# Altium footprint library components.PcbLib: 16 footprints
Each footprint in its own frame and in the unit in brackets; x right, y up, seen from the top. Pads: shape width x height; smd on the part's side, far side on the other; paste and mask are expansions set on the pad; w line width, h text height; cw(c..) or ccw(c..) is an arc to the next point about the centre after c.
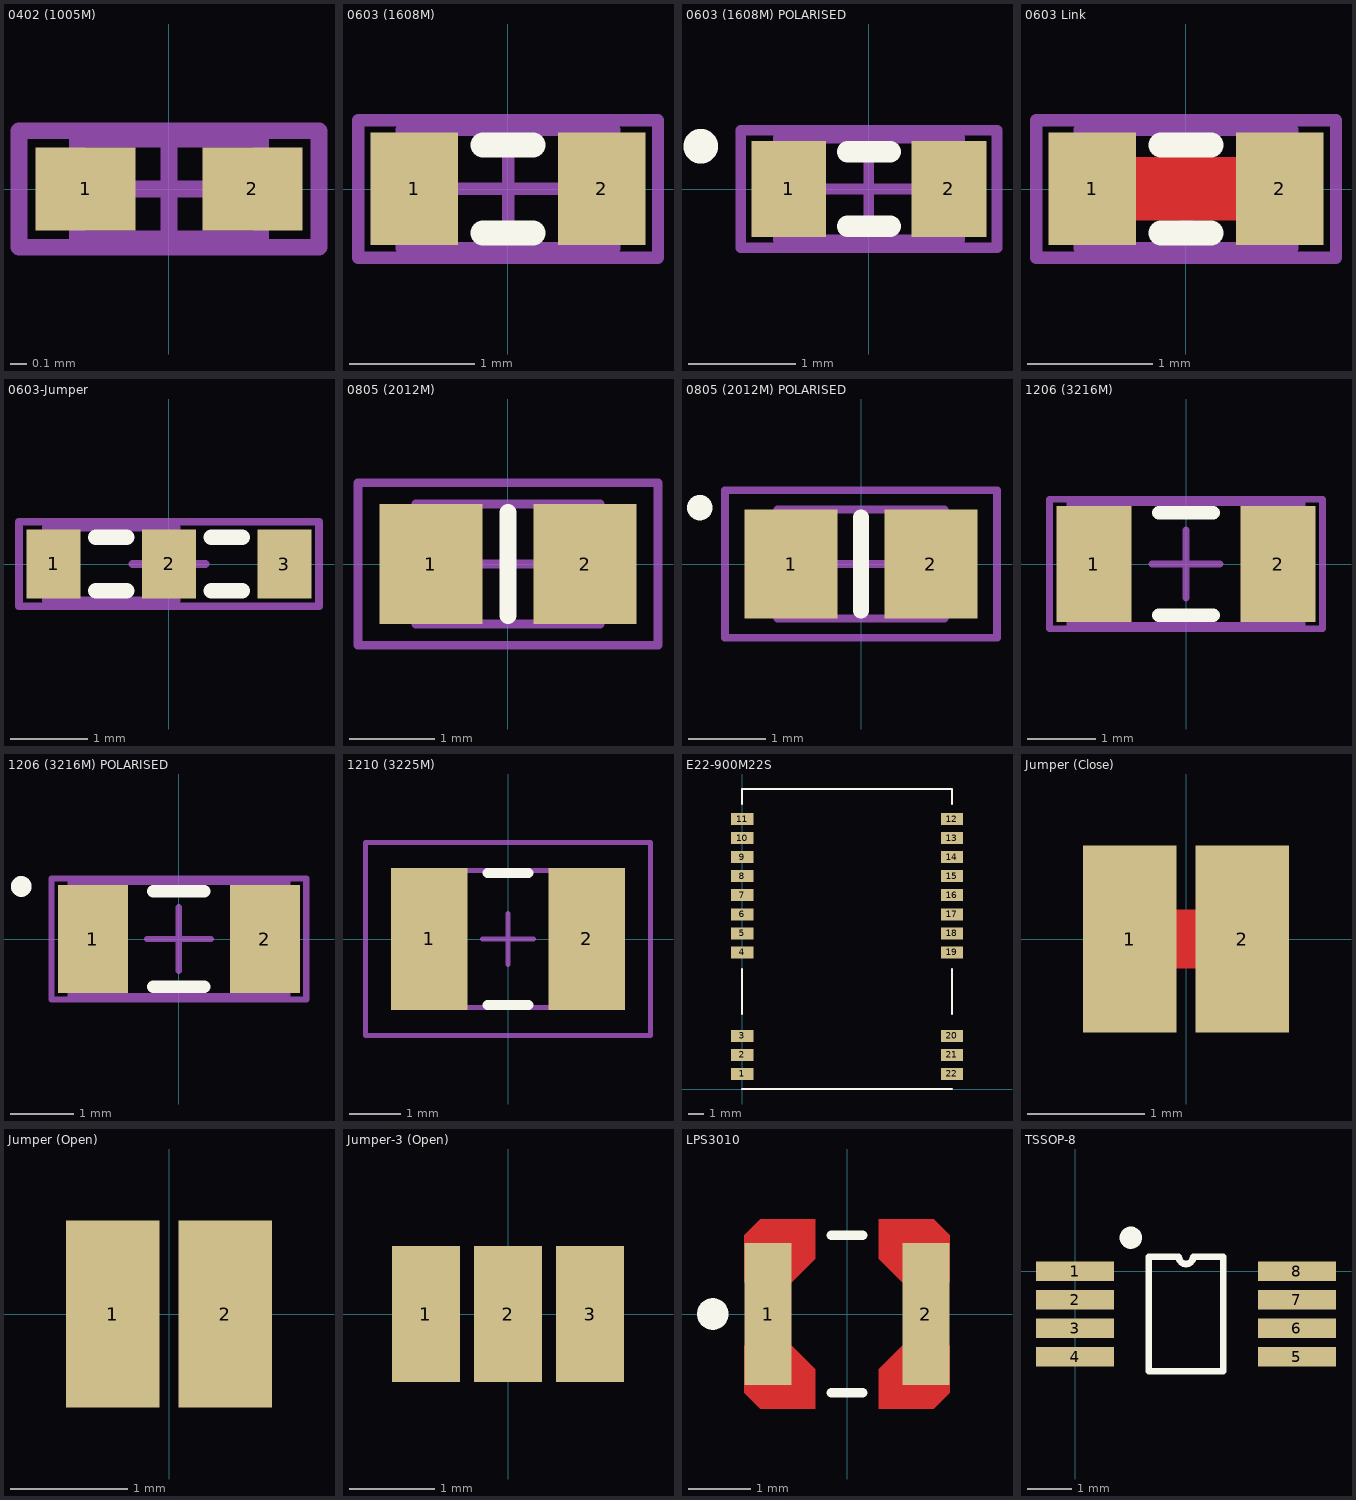
[diagram p0: the footprints below, top view; thin cyan lines are the x and y axes]

## 0402 (1005M) [mm] "Chip Capacitor, Body 1.0x0.5mm, IPC High Density"
height 1.3
pads (2):
  rect 0.6x0.5 smd: 1(-0.5,0) 2(0.5,0)
Mechanical 13:
  lines w0.1: -0.55,-0.3 -0.55,0.3 0.55,0.3 0.55,-0.3 -0.55,-0.3
Mechanical 15:
  lines w0.1: -0.3,0 0.3,0 ; 0,-0.3 0,0.3 ; -0.9,-0.35 -0.9,0.35 0.9,0.35 0.9,-0.35 -0.9,-0.35
3D body: height 1.3, standoff 0, extent -0.55,-0.3 0.55,0.3

## 0603 (1608M) [mm] "Chip Resistor, Body 1.6x0.8mm, IPC High Density"
height 0.9
pads (2):
  rect 0.7x0.9 smd: 1(-0.75,0) 2(0.75,0)
Top Overlay:
  lines w0.2: -0.2,-0.35 0.2,-0.35 ; -0.2,0.35 0.2,0.35
Mechanical 13:
  lines w0.1: -0.85,-0.475 -0.85,0.475 0.85,0.475 0.85,-0.475 -0.85,-0.475
Mechanical 15:
  lines w0.1: -0.475,0 0.475,0 ; 0,-0.475 0,0.475 ; -1.2,-0.55 -1.2,0.55 1.2,0.55 1.2,-0.55 -1.2,-0.55
3D body: height 0.9, standoff 0, extent -0.85,-0.475 0.85,0.475

## 0603 (1608M) POLARISED [mm] "0603 Footprint for Polarised Components"
height 0.9
pads (2):
  rect 0.7x0.9 smd: 1(-0.75,0) 2(0.75,0)
Top Overlay:
  circle w0.254: c-1.575,0.4 r0.035
  lines w0.2: -0.2,-0.35 0.2,-0.35 ; -0.2,0.35 0.2,0.35
Mechanical 13:
  lines w0.1: -0.85,-0.475 -0.85,0.475 0.85,0.475 0.85,-0.475 -0.85,-0.475
Mechanical 15:
  lines w0.1: -0.475,0 0.475,0 ; 0,-0.475 0,0.475 ; -1.2,-0.55 -1.2,0.55 1.2,0.55 1.2,-0.55 -1.2,-0.55
3D body: height 0.9, standoff 0, extent -0.85,-0.475 0.85,0.475

## 0603 Link [mm]
height 0.9
pads (2):
  rect 0.7x0.9 smd: 1(-0.75,0) 2(0.75,0)
Top Layer:
  lines w0.508: -0.75,0 0.75,0
Top Overlay:
  lines w0.2: -0.2,-0.35 0.2,-0.35 ; -0.2,0.35 0.2,0.35
Mechanical 13:
  lines w0.1: -0.85,-0.475 0.85,-0.475 0.85,0.475 -0.85,0.475 -0.85,-0.475
Mechanical 15:
  lines w0.1: -0.475,0 0.475,0 ; 0,-0.475 0,0.475 ; -1.2,-0.55 1.2,-0.55 1.2,0.55 -1.2,0.55 -1.2,-0.55
3D body: height 0.9, standoff 0, extent -0.85,-0.475 0.85,0.475

## 0603-Jumper [mm] "Selectable Jumper 0603"
height 0.9
pads (3):
  rect 0.7x0.9 smd: 1(-1.5,0) 2(0,0) 3(1.5,0)
Top Overlay:
  lines w0.2: -0.95,-0.35 -0.55,-0.35 ; -0.95,0.35 -0.55,0.35 ; 0.55,-0.35 0.95,-0.35 ; 0.55,0.35 0.95,0.35
Mechanical 13:
  lines w0.1: -1.6,-0.475 0.1,-0.475 0.1,0.475 -1.6,0.475 -1.6,-0.475
Mechanical 15:
  lines w0.1: -0.475,0 0.475,0 ; 0,-0.525 0,0.525 ; -1.95,-0.55 1.95,-0.55 1.95,0.55 -1.95,0.55 -1.95,-0.55
3D body: height 0.9, standoff 0, extent -1.6,-0.475 1.625,0.475

## 0805 (2012M) [mm] "0805 Footprint"
height 0.7
pads (2):
  rect 1.2x1.4 smd: 1(-0.9,0) 2(0.9,0)
Top Overlay:
  lines w0.2: 0,-0.6 0,0.6
Mechanical 13:
  lines w0.1: -1.075,-0.7 -1.075,0.7 1.075,0.7 1.075,-0.7 -1.075,-0.7
Mechanical 15:
  lines w0.1: -0.5,0 0.5,0 ; 0,-0.5 0,0.5 ; -1.75,-0.95 -1.75,0.95 1.75,0.95 1.75,-0.95 -1.75,-0.95
3D body: height 0.7, standoff 0, extent -1.075,-0.7 1.075,0.7

## 0805 (2012M) POLARISED [mm] "0805 Footprint for Polarised Components"
height 0.7
pads (2):
  rect 1.2x1.4 smd: 1(-0.9,0) 2(0.9,0)
Top Overlay:
  circle w0.254: c-2.075,0.725 r0.035
  lines w0.2: 0,-0.6 0,0.6
Mechanical 13:
  lines w0.1: -1.075,-0.7 -1.075,0.7 1.075,0.7 1.075,-0.7 -1.075,-0.7
Mechanical 15:
  lines w0.1: -0.5,0 0.5,0 ; 0,-0.5 0,0.5 ; -1.75,-0.95 -1.75,0.95 1.75,0.95 1.75,-0.95 -1.75,-0.95
3D body: height 0.7, standoff 0, extent -1.075,-0.7 1.075,0.7

## 1206 (3216M) [mm] "1206 Footprint"
height 1.3
pads (2):
  rect 1.1x1.7 smd: 1(-1.35,0) 2(1.35,0)
Top Overlay:
  lines w0.2: -0.4,-0.75 0.4,-0.75 ; -0.4,0.75 0.4,0.75
Mechanical 13:
  lines w0.1: -1.7,-0.9 1.7,-0.9 1.7,0.9 -1.7,0.9 -1.7,-0.9
Mechanical 15:
  lines w0.1: -0.5,0 0.5,0 ; 0,-0.5 0,0.5 ; -2,-0.95 2,-0.95 2,0.95 -2,0.95 -2,-0.95
3D body: height 1.3, standoff 0, extent -1.7,-0.9 1.7,0.9

## 1206 (3216M) POLARISED [mm] "1206 Footprint for Polarised Components"
height 1.3
pads (2):
  rect 1.1x1.7 smd: 1(-1.35,0) 2(1.35,0)
Top Overlay:
  circle w0.254: c-2.475,0.825 r0.035
  lines w0.2: -0.4,-0.75 0.4,-0.75 ; -0.4,0.75 0.4,0.75
Mechanical 13:
  lines w0.1: -1.7,-0.9 1.7,-0.9 1.7,0.9 -1.7,0.9 -1.7,-0.9
Mechanical 15:
  lines w0.1: -0.5,0 0.5,0 ; 0,-0.5 0,0.5 ; -2,-0.95 2,-0.95 2,0.95 -2,0.95 -2,-0.95
3D body: height 1.3, standoff 0, extent -1.7,-0.9 1.7,0.9

## 1210 (3225M) [mm] "Chip Capacitor, Body 3.2x2.5mm, IPC Low Density"
height 1.5
pads (2):
  rect 1.5x2.8 smd: 1(-1.55,0) 2(1.55,0)
Top Overlay:
  lines w0.2: -0.4,-1.3 0.4,-1.3 ; -0.4,1.3 0.4,1.3
Mechanical 13:
  lines w0.1: -1.7,-1.35 -1.7,1.35 1.7,1.35 1.7,-1.35 -1.7,-1.35
Mechanical 15:
  lines w0.1: -0.5,0 0.5,0 ; 0,-0.5 0,0.5 ; -2.8,-1.9 -2.8,1.9 2.8,1.9 2.8,-1.9 -2.8,-1.9
3D body: height 1.5, standoff 0, extent -1.7,-1.35 1.7,1.35

## E22-900M22S [mm]
pads (22):
  rect 1.5x0.8 smd: 1(0,1) 2(0,2.27) 3(0,3.54) 4(0,9.11) 5(0,10.38) 6(0,11.65) 7(0,12.92) 8(0,14.19) 9(0,15.46) 10(0,16.73) 11(0,18) 12(14,18) 13(14,16.73) 14(14,15.46) 15(14,14.19) 16(14,12.92) 17(14,11.65) 18(14,10.38) 19(14,9.11) 20(14,3.54) 21(14,2.27) 22(14,1)
Top Overlay:
  lines w0.152: 0,0 14,0 ; 0,5 0,8 ; 0,19 0,20 14,20 14,19 ; 14,5 14,8

## Jumper (Close) [mm]
pads (2):
  rect 0.8x1.6 smd: 1(-0.483,0) 2(0.483,0)
Top Layer:
  rectangle: -0.102,-0.254 0.102,0.254

## Jumper (Open) [mm]
pads (2):
  rect 0.8x1.6 smd: 1(-0.483,0) 2(0.483,0)

## Jumper-3 (Open) [mm]
pads (3):
  rect 0.8x1.6 smd: 1(-0.965,0) 2(0,0) 3(0.965,0)

## LPS3010 [mil] "Shielded SMT Power Inductors – LPS3010 Series"
pads (2):
  rect 30x90 smd: 1(-50,0) 2(50,0)
Top Layer:
  region: -80,20
  region: -65,20 -35,20 -20,35 -20,60 -55,60 -65,50
  region: 65,20 35,20 20,35 20,60 55,60 65,50
  region: -65,-20 -35,-20 -20,-35 -20,-60 -55,-60 -65,-50
  region: 65,-20 35,-20 20,-35 20,-60 55,-60 65,-50
Top Overlay:
  circle w10: c-85,0 r5
  lines w6: -10,-50 10,-50 ; -10,50 10,50
3D body: height 10, standoff 0, extent -55,-50 55,50

## TSSOP-8 [mm]
pads (8):
  rect 1.78x0.45 smd: 1(0,0) 2(0,-0.65) 3(0,-1.3) 4(0,-1.95) 5(5.05,-1.95) 6(5.05,-1.3) 7(5.05,-0.65) 8(5.05,0)
Top Overlay:
  circle w0.254: c1.27,0.762 r0.127
  lines w0.152: 1.677,-2.275 1.677,0.325 2.362,0.325 ccw(c2.525,0.325) 2.687,0.325 3.373,0.325 3.373,-2.275 1.677,-2.275
3D body: height 1, standoff 0, extent 0.325,-2.475 4.725,0.525
3D body: height 0.25, standoff 0, extent -0.127,0.508 -0.127,0.508